# Altium integrated library Linear Technology Power Management LED Driver ICs.IntLib: 490 symbols (part 44 of 48)
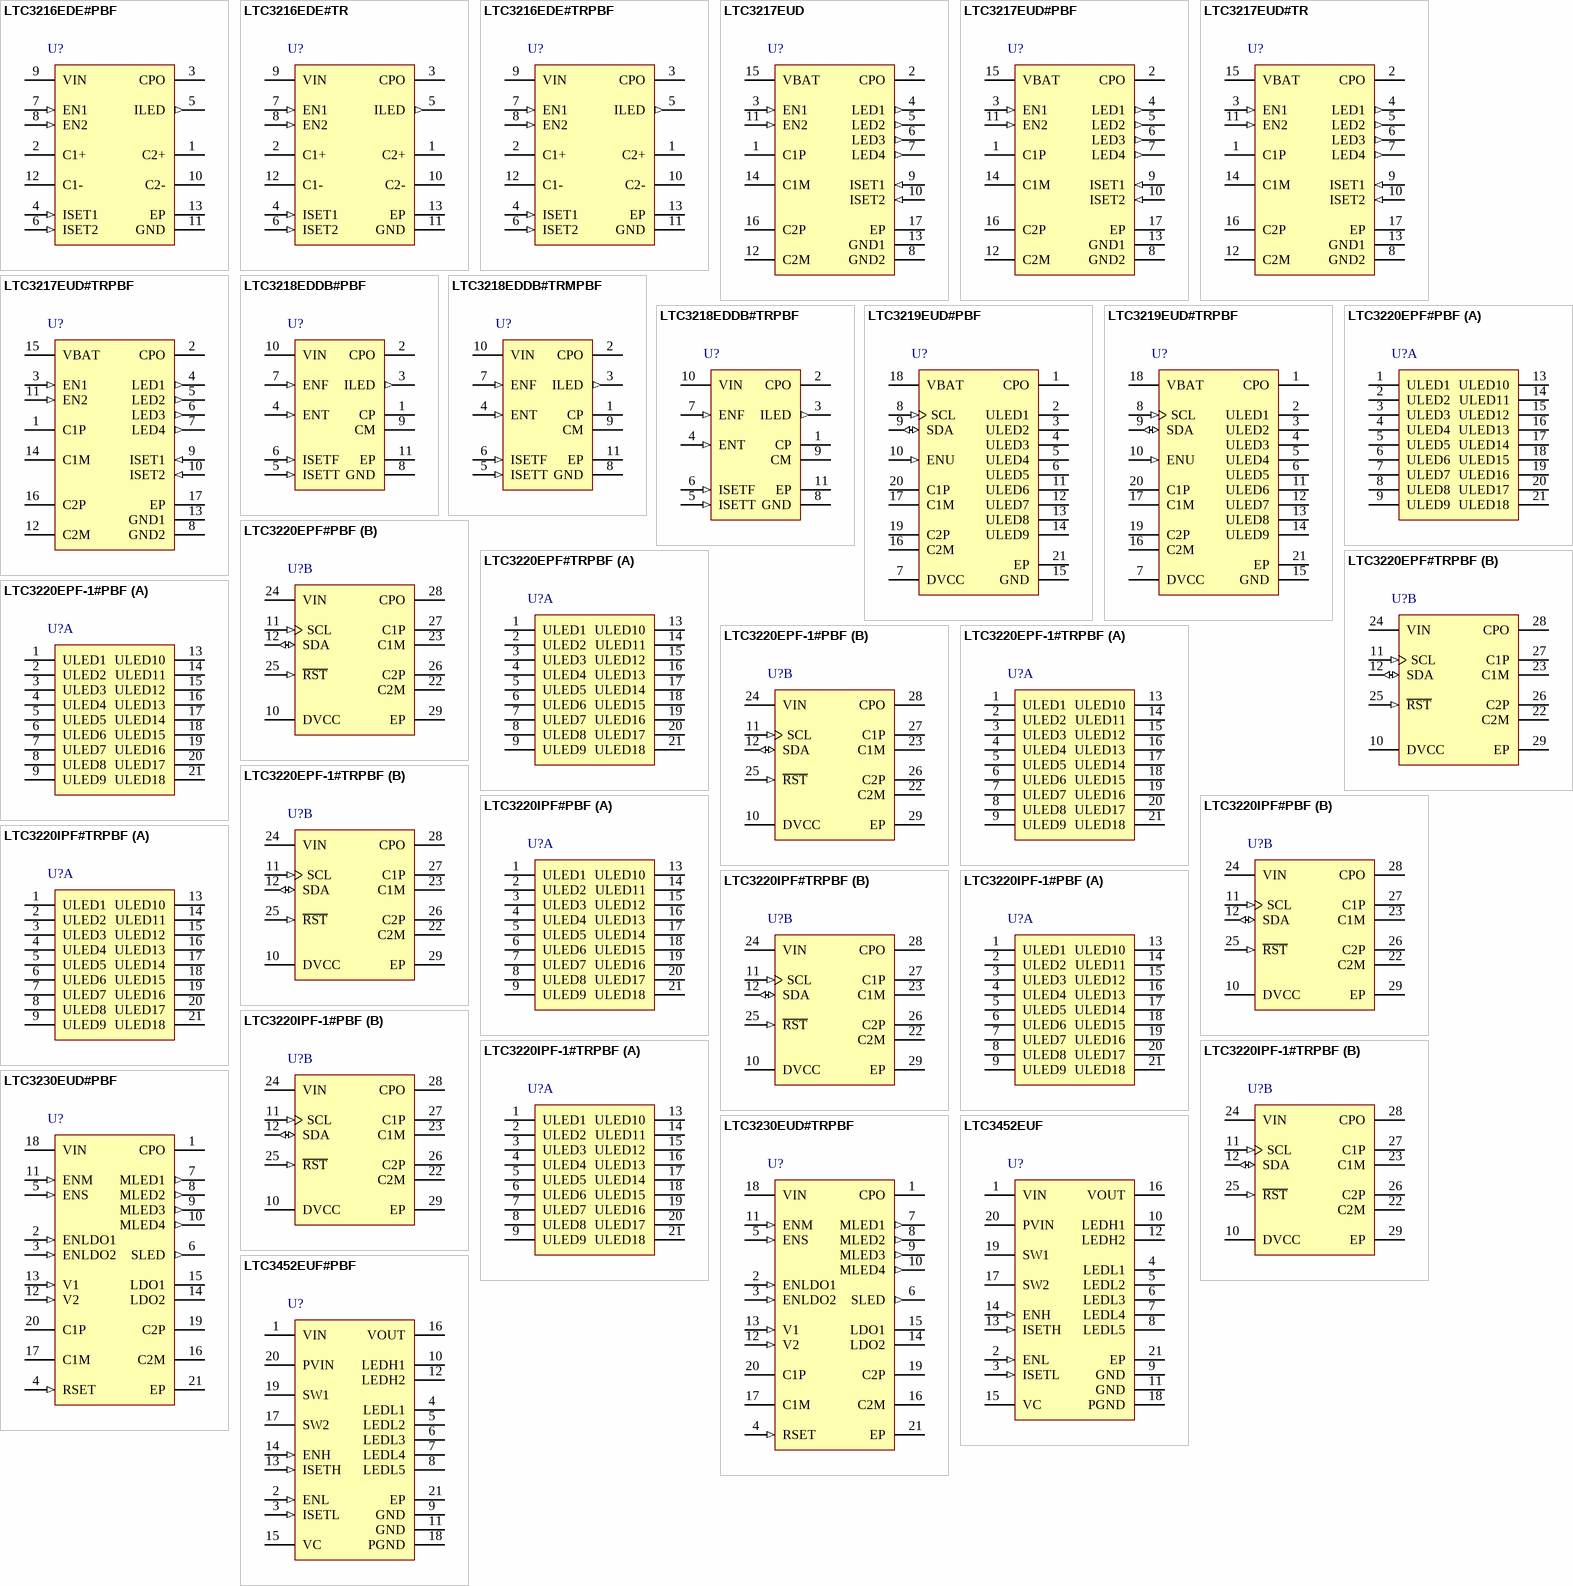
[diagram p63: symbols LTC3216EDE#PBF to LTC3452EUF#PBF]

## LTC3218EDDB#PBF
designator U?
400 mA Single Wire Camera LED Charge Pump, 2.9 to 4.5 V Vin, 5.3 V Vout MAX, 10-pin SON (DDB-10), -40 to 85 degC, Pb-Free; Manufacturer: Linear Technology; PartNumber: LTC3218EDDB#PBF; Topology: Charge Pump, LED Driver; Vin Min(V): 2.9; DatasheetVersion: Rev. B; PackageVersion: Rev. Ø, 06/2010; PackageReference: DDB10; PackageDescription: 10-Pin Plastic DFN, Body 3 x 2 mm, Pitch 0.5 mm; Supplier 1: Newark; Supplier Part Number 1: 78T3163; RoHS: TRUE; Mounting Technology: Surface Mount; Code_JEDEC: MO-229; ComponentLink1Description: Manufacturer URL; ComponentLink1URL: http://www.linear.com/; ComponentLink2Description: Datasheet; ComponentLink2URL: http://cds.linear.com/docs/en/datasheet/3218fb.pdf; ComponentLink3Description: Package Specification; ComponentLink3URL: http://cds.linear.com/docs/en/packaging/DFN_10_05-08-1722.pdf
footprint LT-DDB-10_V (SON, 10-Leads, Body 3x2mm, Pitch 0.5mm, Thermal Pad 2.39x0.64mm)
pins: 1 CP "Charge Pump Flying Capacitor. A 2.2uF X5R or X7R ceramic capacitor should be connected from CP to CM.", 2 CPO (power) "Output of the Charge Pump. This pin may be enabled or disabled using the ENT and ENF inputs. A 4.7uF X5R or X7R ceramic capacitor is required from CPO to GND.", 3 ILED (out) "LED Current Output. The LED is connected between ILED (anode) and GND (cathode). The current out of the ILED pin is set by resistors connected to the ISETT and ISETF pins. An internal, 220mohm sense resistor is connected (See Datasheet)", 4 ENT (in) "Input. The ENT pin is used to enable the part into torch mode and bring it into shutdown mode. An internal 250kohm resistor pulls this pin to GND when left floating.", 5 ISETT (in) "LED Torch Current Programming Resistor. A resistor connected between this pin and GND is used to set the LED torch current level.", 6 ISETF (in) "LED Flash Current Programming Resistor. A resistor connected between this pin and GND is used to set the LED flash current level.", 7 ENF (in) "Input. The ENF pin is used to enable the part into flash mode and bring it into shutdown mode. An internal 250kohm resistor pulls this pin to GND when left floating. A safety timer will disable the part if this pin is held (See Datasheet)", 8 GND (power) "Ground. This pin should be connected directly to a low impedance ground plane.", 9 CM "Charge Pump Flying Capacitor. A 2.2uF X5R or X7R ceramic capacitor should be connected from CP to CM.", 10 VIN (power) "Power. Supply voltage for the LTC3218. VIN should be bypassed with a low impedance ceramic capacitor to GND of at least 1.6uF of capacitance.", 11 EP (power) "Ground. This pad must be soldered to a low impedance ground plane for optimum thermal performance."

## LTC3218EDDB#TRMPBF
designator U?
400 mA Single Wire Camera LED Charge Pump, 2.9 to 4.5 V Vin, 5.3 V Vout MAX, 10-pin SON (DDB-10), -40 to 85 degC, Pb-Free, Mini Tape and Reel; Manufacturer: Linear Technology; PartNumber: LTC3218EDDB#TRMPBF; Topology: Charge Pump, LED Driver; Vin Min(V): 2.9; DatasheetVersion: Rev. B; PackageVersion: Rev. Ø, 06/2010; PackageReference: DDB10; PackageDescription: 10-Pin Plastic DFN, Body 3 x 2 mm, Pitch 0.5 mm; Supplier 1: Digi-Key; Supplier Part Number 1: LTC3218EDDB#TRMPBF-ND; Packing: Mini Tape and Reel; RoHS: TRUE; Mounting Technology: Surface Mount; Code_JEDEC: MO-229; ComponentLink1Description: Manufacturer URL; ComponentLink1URL: http://www.linear.com/; ComponentLink2Description: Datasheet; ComponentLink2URL: http://cds.linear.com/docs/en/datasheet/3218fb.pdf; ComponentLink3Description: Package Specification; ComponentLink3URL: http://cds.linear.com/docs/en/packaging/DFN_10_05-08-1722.pdf
footprint LT-DDB-10_V (SON, 10-Leads, Body 3x2mm, Pitch 0.5mm, Thermal Pad 2.39x0.64mm)
pins: 1 CP "Charge Pump Flying Capacitor. A 2.2uF X5R or X7R ceramic capacitor should be connected from CP to CM.", 2 CPO (power) "Output of the Charge Pump. This pin may be enabled or disabled using the ENT and ENF inputs. A 4.7uF X5R or X7R ceramic capacitor is required from CPO to GND.", 3 ILED (out) "LED Current Output. The LED is connected between ILED (anode) and GND (cathode). The current out of the ILED pin is set by resistors connected to the ISETT and ISETF pins. An internal, 220mohm sense resistor is connected (See Datasheet)", 4 ENT (in) "Input. The ENT pin is used to enable the part into torch mode and bring it into shutdown mode. An internal 250kohm resistor pulls this pin to GND when left floating.", 5 ISETT (in) "LED Torch Current Programming Resistor. A resistor connected between this pin and GND is used to set the LED torch current level.", 6 ISETF (in) "LED Flash Current Programming Resistor. A resistor connected between this pin and GND is used to set the LED flash current level.", 7 ENF (in) "Input. The ENF pin is used to enable the part into flash mode and bring it into shutdown mode. An internal 250kohm resistor pulls this pin to GND when left floating. A safety timer will disable the part if this pin is held (See Datasheet)", 8 GND (power) "Ground. This pin should be connected directly to a low impedance ground plane.", 9 CM "Charge Pump Flying Capacitor. A 2.2uF X5R or X7R ceramic capacitor should be connected from CP to CM.", 10 VIN (power) "Power. Supply voltage for the LTC3218. VIN should be bypassed with a low impedance ceramic capacitor to GND of at least 1.6uF of capacitance.", 11 EP (power) "Ground. This pad must be soldered to a low impedance ground plane for optimum thermal performance."

## LTC3218EDDB#TRPBF
designator U?
400 mA Single Wire Camera LED Charge Pump, 2.9 to 4.5 V Vin, 5.3 V Vout MAX, 10-pin SON (DDB-10), -40 to 85 degC, Pb-Free, Tape and Reel; Manufacturer: Linear Technology; PartNumber: LTC3218EDDB#TRPBF; Topology: Charge Pump, LED Driver; Vin Min(V): 2.9; DatasheetVersion: Rev. B; PackageVersion: Rev. Ø, 06/2010; PackageReference: DDB10; PackageDescription: 10-Pin Plastic DFN, Body 3 x 2 mm, Pitch 0.5 mm; Supplier 1: Digi-Key; Supplier Part Number 1: LTC3218EDDB#TRPBF-ND; Packing: Tape and Reel; RoHS: TRUE; Mounting Technology: Surface Mount; Code_JEDEC: MO-229; ComponentLink1Description: Manufacturer URL; ComponentLink1URL: http://www.linear.com/; ComponentLink2Description: Datasheet; ComponentLink2URL: http://cds.linear.com/docs/en/datasheet/3218fb.pdf; ComponentLink3Description: Package Specification; ComponentLink3URL: http://cds.linear.com/docs/en/packaging/DFN_10_05-08-1722.pdf
footprint LT-DDB-10_V (SON, 10-Leads, Body 3x2mm, Pitch 0.5mm, Thermal Pad 2.39x0.64mm)
pins: 1 CP "Charge Pump Flying Capacitor. A 2.2uF X5R or X7R ceramic capacitor should be connected from CP to CM.", 2 CPO (power) "Output of the Charge Pump. This pin may be enabled or disabled using the ENT and ENF inputs. A 4.7uF X5R or X7R ceramic capacitor is required from CPO to GND.", 3 ILED (out) "LED Current Output. The LED is connected between ILED (anode) and GND (cathode). The current out of the ILED pin is set by resistors connected to the ISETT and ISETF pins. An internal, 220mohm sense resistor is connected (See Datasheet)", 4 ENT (in) "Input. The ENT pin is used to enable the part into torch mode and bring it into shutdown mode. An internal 250kohm resistor pulls this pin to GND when left floating.", 5 ISETT (in) "LED Torch Current Programming Resistor. A resistor connected between this pin and GND is used to set the LED torch current level.", 6 ISETF (in) "LED Flash Current Programming Resistor. A resistor connected between this pin and GND is used to set the LED flash current level.", 7 ENF (in) "Input. The ENF pin is used to enable the part into flash mode and bring it into shutdown mode. An internal 250kohm resistor pulls this pin to GND when left floating. A safety timer will disable the part if this pin is held (See Datasheet)", 8 GND (power) "Ground. This pin should be connected directly to a low impedance ground plane.", 9 CM "Charge Pump Flying Capacitor. A 2.2uF X5R or X7R ceramic capacitor should be connected from CP to CM.", 10 VIN (power) "Power. Supply voltage for the LTC3218. VIN should be bypassed with a low impedance ceramic capacitor to GND of at least 1.6uF of capacitance.", 11 EP (power) "Ground. This pad must be soldered to a low impedance ground plane for optimum thermal performance."

## LTC3219EUD#PBF
designator U?
250 mA Universal Nine Channel LED Driver, 2.9 to 5.5 V Vin, 5.5 V Vout MAX, 20-pin QFN (UD-20), -40 to 85 degC, Pb-Free; Manufacturer: Linear Technology; PartNumber: LTC3219EUD#PBF; Topology: Charge Pump, LED Driver; Vin Min(V): 2.9; DatasheetVersion: Rev. A; PackageVersion: Rev. A, 06/2010; PackageReference: UD-20; PackageDescription: 20-Pin Plastic QFN, Body 3 x 3 mm, Pitch 0.4 mm; Supplier 1: Digi-Key; Supplier Part Number 1: LTC3219EUD#PBF-ND; Supplier 2: Farnell; Supplier Part Number 2: 1715229; Supplier 3: Newark; Supplier Part Number 3: 56M7434; RoHS: TRUE; Mounting Technology: Surface Mount; ComponentLink1Description: Manufacturer URL; ComponentLink1URL: http://www.linear.com/; ComponentLink2Description: Datasheet; ComponentLink2URL: http://cds.linear.com/docs/en/datasheet/3219fa.pdf; ComponentLink3Description: Package Specification; ComponentLink3URL: http://cds.linear.com/docs/en/packaging/QFN_20_05-08-1720.pdf
footprint LT-UD-20_N (QFN, 20-Leads, Body 3.1x3.1mm, Pitch 0.4mm, Thermal Pad 1.65x1.65mm, IPC Medium Density)
footprint LT-UD-20_L (QFN, 20-Leads, Body 3.1x3.1mm, Pitch 0.4mm, Thermal Pad 1.65x1.65mm, IPC High Density)
footprint LT-UD-20_M (QFN, 20-Leads, Body 3.1x3.1mm, Pitch 0.4mm, Thermal Pad 1.65x1.65mm, IPC Low Density)
pins: 1 CPO (power) "Output of the Charge Pump Used to Power all LEDs. A 2.2uF X5R or X7R ceramic capacitor should be connected to ground.", 2 ULED1 (oc) "Current Source Output for Driving LED. The LED current can be set from 0mA to 28mA in 64 steps via software control and internal 6-bit linear DAC. Each output can be disabled by setting the associated data register REG1 REG9 (See Datasheet)", 3 ULED2 (oc) "Current Source Output for Driving LED. The LED current can be set from 0mA to 28mA in 64 steps via software control and internal 6-bit linear DAC. Each output can be disabled by setting the associated data register REG1 REG9 (See Datasheet)", 4 ULED3 (oc) "Current Source Output for Driving LED. The LED current can be set from 0mA to 28mA in 64 steps via software control and internal 6-bit linear DAC. Each output can be disabled by setting the associated data register REG1 REG9 (See Datasheet)", 5 ULED4 (oc) "Current Source Output for Driving LED. The LED current can be set from 0mA to 28mA in 64 steps via software control and internal 6-bit linear DAC. Each output can be disabled by setting the associated data register REG1 REG9 (See Datasheet)", 6 ULED5 (oc) "Current Source Output for Driving LED. The LED current can be set from 0mA to 28mA in 64 steps via software control and internal 6-bit linear DAC. Each output can be disabled by setting the associated data register REG1 REG9 (See Datasheet)", 7 DVCC (power) "Supply Voltage for All Digital I/O Lines. This pin sets the logic reference level of the LTC3219. DVCC will reset the data registers when set below the undervoltage lockout threshold, which is the recommended method for (See Datasheet)", 8 SCL (in) "I2C Clock Input. The logic level for SCL is referenced to DVCC.", 9 SDA (io) "Input Data for the Serial Port. Serial data is shifted in one bit per clock to control the LTC3219. The logic level is referenced to DVCC.", 10 ENU (in) "Input. Used to enable or disable the preselected ULED outputs. When the pin is toggled from low (disable) to high (enable), the LTC3219 illuminates the pre-selected LEDs. When ENU is controlling selected outputs and other (See Datasheet)", 11 ULED6 (oc) "Current Source Output for Driving LED. The LED current can be set from 0mA to 28mA in 64 steps via software control and internal 6-bit linear DAC. Each output can be disabled by setting the associated data register REG1 REG9 (See Datasheet)", 12 ULED7 (oc) "Current Source Output for Driving LED. The LED current can be set from 0mA to 28mA in 64 steps via software control and internal 6-bit linear DAC. Each output can be disabled by setting the associated data register REG1 REG9 (See Datasheet)", 13 ULED8 (oc) "Current Source Output for Driving LED. The LED current can be set from 0mA to 28mA in 64 steps via software control and internal 6-bit linear DAC. Each output can be disabled by setting the associated data register REG1 REG9 (See Datasheet)", 14 ULED9 (oc) "Current Source Output for Driving LED. The LED current can be set from 0mA to 28mA in 64 steps via software control and internal 6-bit linear DAC. Each output can be disabled by setting the associated data register REG1 REG9 (See Datasheet)", 15 GND (power) "System Ground. Connect Pin 15 and the Exposed Pad (Pin 21) to the ground plane.", 16 C2M "Charge Pump Flying Capacitor Pin. A 1uF X7R or X5R ceramic capacitor should be connected from C1P to C1M and C2P to C2M.", 17 C1M "Charge Pump Flying Capacitor Pin. A 1uF X7R or X5R ceramic capacitor should be connected from C1P to C1M and C2P to C2M.", 18 VBAT (power) "Supply Voltage for the Entire Device. This pin should be bypassed with a single 2.2uF low ESR ceramic capacitor.", 19 C2P "Charge Pump Flying Capacitor Pin. A 1uF X7R or X5R ceramic capacitor should be connected from C1P to C1M and C2P to C2M.", 20 C1P "Charge Pump Flying Capacitor Pin. A 1uF X7R or X5R ceramic capacitor should be connected from C1P to C1M and C2P to C2M.", 21 EP (power) "System Ground. Connect Pin 15 and the Exposed Pad (Pin 21) to the ground plane."

## LTC3219EUD#TRPBF
designator U?
250 mA Universal Nine Channel LED Driver, 2.9 to 5.5 V Vin, 5.5 V Vout MAX, 20-pin QFN (UD-20), -40 to 85 degC, Pb-Free, Tape and Reel; Manufacturer: Linear Technology; PartNumber: LTC3219EUD#TRPBF; Topology: Charge Pump, LED Driver; Vin Min(V): 2.9; DatasheetVersion: Rev. A; PackageVersion: Rev. A, 06/2010; PackageReference: UD-20; PackageDescription: 20-Pin Plastic QFN, Body 3 x 3 mm, Pitch 0.4 mm; Supplier 1: Digi-Key; Supplier Part Number 1: LTC3219EUD#TRPBF-ND; Packing: Tape and Reel; RoHS: TRUE; Mounting Technology: Surface Mount; ComponentLink1Description: Manufacturer URL; ComponentLink1URL: http://www.linear.com/; ComponentLink2Description: Datasheet; ComponentLink2URL: http://cds.linear.com/docs/en/datasheet/3219fa.pdf; ComponentLink3Description: Package Specification; ComponentLink3URL: http://cds.linear.com/docs/en/packaging/QFN_20_05-08-1720.pdf
footprint LT-UD-20_N (QFN, 20-Leads, Body 3.1x3.1mm, Pitch 0.4mm, Thermal Pad 1.65x1.65mm, IPC Medium Density)
footprint LT-UD-20_L (QFN, 20-Leads, Body 3.1x3.1mm, Pitch 0.4mm, Thermal Pad 1.65x1.65mm, IPC High Density)
footprint LT-UD-20_M (QFN, 20-Leads, Body 3.1x3.1mm, Pitch 0.4mm, Thermal Pad 1.65x1.65mm, IPC Low Density)
pins: 1 CPO (power) "Output of the Charge Pump Used to Power all LEDs. A 2.2uF X5R or X7R ceramic capacitor should be connected to ground.", 2 ULED1 (oc) "Current Source Output for Driving LED. The LED current can be set from 0mA to 28mA in 64 steps via software control and internal 6-bit linear DAC. Each output can be disabled by setting the associated data register REG1 REG9 (See Datasheet)", 3 ULED2 (oc) "Current Source Output for Driving LED. The LED current can be set from 0mA to 28mA in 64 steps via software control and internal 6-bit linear DAC. Each output can be disabled by setting the associated data register REG1 REG9 (See Datasheet)", 4 ULED3 (oc) "Current Source Output for Driving LED. The LED current can be set from 0mA to 28mA in 64 steps via software control and internal 6-bit linear DAC. Each output can be disabled by setting the associated data register REG1 REG9 (See Datasheet)", 5 ULED4 (oc) "Current Source Output for Driving LED. The LED current can be set from 0mA to 28mA in 64 steps via software control and internal 6-bit linear DAC. Each output can be disabled by setting the associated data register REG1 REG9 (See Datasheet)", 6 ULED5 (oc) "Current Source Output for Driving LED. The LED current can be set from 0mA to 28mA in 64 steps via software control and internal 6-bit linear DAC. Each output can be disabled by setting the associated data register REG1 REG9 (See Datasheet)", 7 DVCC (power) "Supply Voltage for All Digital I/O Lines. This pin sets the logic reference level of the LTC3219. DVCC will reset the data registers when set below the undervoltage lockout threshold, which is the recommended method for (See Datasheet)", 8 SCL (in) "I2C Clock Input. The logic level for SCL is referenced to DVCC.", 9 SDA (io) "Input Data for the Serial Port. Serial data is shifted in one bit per clock to control the LTC3219. The logic level is referenced to DVCC.", 10 ENU (in) "Input. Used to enable or disable the preselected ULED outputs. When the pin is toggled from low (disable) to high (enable), the LTC3219 illuminates the pre-selected LEDs. When ENU is controlling selected outputs and other (See Datasheet)", 11 ULED6 (oc) "Current Source Output for Driving LED. The LED current can be set from 0mA to 28mA in 64 steps via software control and internal 6-bit linear DAC. Each output can be disabled by setting the associated data register REG1 REG9 (See Datasheet)", 12 ULED7 (oc) "Current Source Output for Driving LED. The LED current can be set from 0mA to 28mA in 64 steps via software control and internal 6-bit linear DAC. Each output can be disabled by setting the associated data register REG1 REG9 (See Datasheet)", 13 ULED8 (oc) "Current Source Output for Driving LED. The LED current can be set from 0mA to 28mA in 64 steps via software control and internal 6-bit linear DAC. Each output can be disabled by setting the associated data register REG1 REG9 (See Datasheet)", 14 ULED9 (oc) "Current Source Output for Driving LED. The LED current can be set from 0mA to 28mA in 64 steps via software control and internal 6-bit linear DAC. Each output can be disabled by setting the associated data register REG1 REG9 (See Datasheet)", 15 GND (power) "System Ground. Connect Pin 15 and the Exposed Pad (Pin 21) to the ground plane.", 16 C2M "Charge Pump Flying Capacitor Pin. A 1uF X7R or X5R ceramic capacitor should be connected from C1P to C1M and C2P to C2M.", 17 C1M "Charge Pump Flying Capacitor Pin. A 1uF X7R or X5R ceramic capacitor should be connected from C1P to C1M and C2P to C2M.", 18 VBAT (power) "Supply Voltage for the Entire Device. This pin should be bypassed with a single 2.2uF low ESR ceramic capacitor.", 19 C2P "Charge Pump Flying Capacitor Pin. A 1uF X7R or X5R ceramic capacitor should be connected from C1P to C1M and C2P to C2M.", 20 C1P "Charge Pump Flying Capacitor Pin. A 1uF X7R or X5R ceramic capacitor should be connected from C1P to C1M and C2P to C2M.", 21 EP (power) "System Ground. Connect Pin 15 and the Exposed Pad (Pin 21) to the ground plane."

## LTC3220EPF#PBF
designator U?
360 mA Universal 18-Channel LED Driver, 2.9 to 5.5 V Vin, 5.5 V Vout MAX, 28-pin QFN (PF-28), -40 to 85 degC, Pb-Free; Manufacturer: Linear Technology; PartNumber: LTC3220EPF#PBF; Topology: Charge Pump, LED Driver; Vin Min(V): 2.9; DatasheetVersion: Rev. C; PackageVersion: Rev. Ø, 01/2011; PackageReference: PF-28; PackageDescription: 28-Pin Plastic UTQFN, Body 4 x 4 mm, Pitch 0.4 mm; Supplier 1: Digi-Key; Supplier Part Number 1: LTC3220EPF#PBF-ND; Supplier 2: Farnell; Supplier Part Number 2: 1628760; Supplier 3: Newark; Supplier Part Number 3: 75M4517; RoHS: TRUE; Mounting Technology: Surface Mount; ComponentLink1Description: Manufacturer URL; ComponentLink1URL: http://www.linear.com/; ComponentLink2Description: Datasheet; ComponentLink2URL: http://cds.linear.com/docs/en/datasheet/32201fc.pdf; ComponentLink3Description: Package Specification; ComponentLink3URL: http://cds.linear.com/docs/en/packaging/(PF28)%20UTQFN%2005-08-1759%20Rev%20%C3%98.pdf
footprint LT-PF-28_N (QFN, 28-Leads, Body 4.1x4.1mm, Pitch 0.4mm, Thermal Pad 2.64x2.64mm, IPC Medium Density)
footprint LT-PF-28_L (QFN, 28-Leads, Body 4.1x4.1mm, Pitch 0.4mm, Thermal Pad 2.64x2.64mm, IPC High Density)
footprint LT-PF-28_M (QFN, 28-Leads, Body 4.1x4.1mm, Pitch 0.4mm, Thermal Pad 2.64x2.64mm, IPC Low Density)
part A pins: 1 ULED1 (oc) "Current Source Output for Driving LED. The LED current can be set from 0mA to 20mA in 64 steps via software control and internal 6-bit linear DAC. Each output can be disabled by setting the associated data register REG1 to (See Datasheet)", 2 ULED2 (oc) "Current Source Output for Driving LED. The LED current can be set from 0mA to 20mA in 64 steps via software control and internal 6-bit linear DAC. Each output can be disabled by setting the associated data register REG1 to (See Datasheet)", 3 ULED3 (oc) "Current Source Output for Driving LED. The LED current can be set from 0mA to 20mA in 64 steps via software control and internal 6-bit linear DAC. Each output can be disabled by setting the associated data register REG1 to (See Datasheet)", 4 ULED4 (oc) "Current Source Output for Driving LED. The LED current can be set from 0mA to 20mA in 64 steps via software control and internal 6-bit linear DAC. Each output can be disabled by setting the associated data register REG1 to (See Datasheet)", 5 ULED5 (oc) "Current Source Output for Driving LED. The LED current can be set from 0mA to 20mA in 64 steps via software control and internal 6-bit linear DAC. Each output can be disabled by setting the associated data register REG1 to (See Datasheet)", 6 ULED6 (oc) "Current Source Output for Driving LED. The LED current can be set from 0mA to 20mA in 64 steps via software control and internal 6-bit linear DAC. Each output can be disabled by setting the associated data register REG1 to (See Datasheet)", 7 ULED7 (oc) "Current Source Output for Driving LED. The LED current can be set from 0mA to 20mA in 64 steps via software control and internal 6-bit linear DAC. Each output can be disabled by setting the associated data register REG1 to (See Datasheet)", 8 ULED8 (oc) "Current Source Output for Driving LED. The LED current can be set from 0mA to 20mA in 64 steps via software control and internal 6-bit linear DAC. Each output can be disabled by setting the associated data register REG1 to (See Datasheet)", 9 ULED9 (oc) "Current Source Output for Driving LED. The LED current can be set from 0mA to 20mA in 64 steps via software control and internal 6-bit linear DAC. Each output can be disabled by setting the associated data register REG1 to (See Datasheet)", 13 ULED10 (oc) "Current Source Output for Driving LED. The LED current can be set from 0mA to 20mA in 64 steps via software control and internal 6-bit linear DAC. Each output can be disabled by setting the associated data register REG1 to (See Datasheet)", 14 ULED11 (oc) "Current Source Output for Driving LED. The LED current can be set from 0mA to 20mA in 64 steps via software control and internal 6-bit linear DAC. Each output can be disabled by setting the associated data register REG1 to (See Datasheet)", 15 ULED12 (oc) "Current Source Output for Driving LED. The LED current can be set from 0mA to 20mA in 64 steps via software control and internal 6-bit linear DAC. Each output can be disabled by setting the associated data register REG1 to (See Datasheet)", 16 ULED13 (oc) "Current Source Output for Driving LED. The LED current can be set from 0mA to 20mA in 64 steps via software control and internal 6-bit linear DAC. Each output can be disabled by setting the associated data register REG1 to (See Datasheet)", 17 ULED14 (oc) "Current Source Output for Driving LED. The LED current can be set from 0mA to 20mA in 64 steps via software control and internal 6-bit linear DAC. Each output can be disabled by setting the associated data register REG1 to (See Datasheet)", 18 ULED15 (oc) "Current Source Output for Driving LED. The LED current can be set from 0mA to 20mA in 64 steps via software control and internal 6-bit linear DAC. Each output can be disabled by setting the associated data register REG1 to (See Datasheet)", 19 ULED16 (oc) "Current Source Output for Driving LED. The LED current can be set from 0mA to 20mA in 64 steps via software control and internal 6-bit linear DAC. Each output can be disabled by setting the associated data register REG1 to (See Datasheet)", 20 ULED17 (oc) "Current Source Output for Driving LED. The LED current can be set from 0mA to 20mA in 64 steps via software control and internal 6-bit linear DAC. Each output can be disabled by setting the associated data register REG1 to (See Datasheet)", 21 ULED18 (oc) "Current Source Output for Driving LED. The LED current can be set from 0mA to 20mA in 64 steps via software control and internal 6-bit linear DAC. Each output can be disabled by setting the associated data register REG1 to (See Datasheet)"
part B pins: 10 DVCC (power) "Supply Voltage for All digital I/O lines. This pin sets the logic reference level of the LTC3220/LTC3220-1. DVCC will reset the data registers when set below the undervoltage lockout threshold. A 0.1uF X5R or X7R ceramic (See Datasheet)", 11 SCL (in) "I2C Clock Input. The logic level for SCL is referenced to DVCC.", 12 SDA (io) "Input Data for the Serial Port. Serial data is shifted in one bit per clock cycle to control the LTC3220/ LTC3220-1. The logic level is referenced to DVCC.", 22 C2M "Charge Pump Flying Capacitor Pins. A 2.2uF X7R or X5R ceramic capacitor should be connected from C1P to C1M and C2P to C2M.", 23 C1M "Charge Pump Flying Capacitor Pins. A 2.2uF X7R or X5R ceramic capacitor should be connected from C1P to C1M and C2P to C2M.", 24 VIN (power) "Supply Voltage for the Entire Device. This pin must be bypassed with a single 2.2uF low ESR ceramic capacitor.", 25 ~{RST} (in) "Active Low Reset Input. R\S\T\ Resets all internal registers and forces LTC3220/LTC3220-1 into shutdown mode.", 26 C2P "Charge Pump Flying Capacitor Pins. A 2.2uF X7R or X5R ceramic capacitor should be connected from C1P to C1M and C2P to C2M.", 27 C1P "Charge Pump Flying Capacitor Pins. A 2.2uF X7R or X5R ceramic capacitor should be connected from C1P to C1M and C2P to C2M.", 28 CPO (power) "Output of the Charge Pump. Used to power all LEDs. A 4.7uF X5R or X7R ceramic capacitor should be connected to ground.", 29 EP (power) "Ground. The Exposed Pad must be soldered to PCB ground."

## LTC3220EPF#TRPBF
designator U?
360 mA Universal 18-Channel LED Driver, 2.9 to 5.5 V Vin, 5.5 V Vout MAX, 28-pin QFN (PF-28), -40 to 85 degC, Pb-Free, Tape and Reel; Manufacturer: Linear Technology; PartNumber: LTC3220EPF#TRPBF; Topology: Charge Pump, LED Driver; Vin Min(V): 2.9; DatasheetVersion: Rev. C; PackageVersion: Rev. Ø, 01/2011; PackageReference: PF-28; PackageDescription: 28-Pin Plastic UTQFN, Body 4 x 4 mm, Pitch 0.4 mm; Supplier 1: Digi-Key; Supplier Part Number 1: LTC3220EPF#TRPBF-ND; Packing: Tape and Reel; RoHS: TRUE; Mounting Technology: Surface Mount; ComponentLink1Description: Manufacturer URL; ComponentLink1URL: http://www.linear.com/; ComponentLink2Description: Datasheet; ComponentLink2URL: http://cds.linear.com/docs/en/datasheet/32201fc.pdf; ComponentLink3Description: Package Specification; ComponentLink3URL: http://cds.linear.com/docs/en/packaging/(PF28)%20UTQFN%2005-08-1759%20Rev%20%C3%98.pdf
footprint LT-PF-28_N (QFN, 28-Leads, Body 4.1x4.1mm, Pitch 0.4mm, Thermal Pad 2.64x2.64mm, IPC Medium Density)
footprint LT-PF-28_L (QFN, 28-Leads, Body 4.1x4.1mm, Pitch 0.4mm, Thermal Pad 2.64x2.64mm, IPC High Density)
footprint LT-PF-28_M (QFN, 28-Leads, Body 4.1x4.1mm, Pitch 0.4mm, Thermal Pad 2.64x2.64mm, IPC Low Density)
part A pins: 1 ULED1 (oc) "Current Source Output for Driving LED. The LED current can be set from 0mA to 20mA in 64 steps via software control and internal 6-bit linear DAC. Each output can be disabled by setting the associated data register REG1 to (See Datasheet)", 2 ULED2 (oc) "Current Source Output for Driving LED. The LED current can be set from 0mA to 20mA in 64 steps via software control and internal 6-bit linear DAC. Each output can be disabled by setting the associated data register REG1 to (See Datasheet)", 3 ULED3 (oc) "Current Source Output for Driving LED. The LED current can be set from 0mA to 20mA in 64 steps via software control and internal 6-bit linear DAC. Each output can be disabled by setting the associated data register REG1 to (See Datasheet)", 4 ULED4 (oc) "Current Source Output for Driving LED. The LED current can be set from 0mA to 20mA in 64 steps via software control and internal 6-bit linear DAC. Each output can be disabled by setting the associated data register REG1 to (See Datasheet)", 5 ULED5 (oc) "Current Source Output for Driving LED. The LED current can be set from 0mA to 20mA in 64 steps via software control and internal 6-bit linear DAC. Each output can be disabled by setting the associated data register REG1 to (See Datasheet)", 6 ULED6 (oc) "Current Source Output for Driving LED. The LED current can be set from 0mA to 20mA in 64 steps via software control and internal 6-bit linear DAC. Each output can be disabled by setting the associated data register REG1 to (See Datasheet)", 7 ULED7 (oc) "Current Source Output for Driving LED. The LED current can be set from 0mA to 20mA in 64 steps via software control and internal 6-bit linear DAC. Each output can be disabled by setting the associated data register REG1 to (See Datasheet)", 8 ULED8 (oc) "Current Source Output for Driving LED. The LED current can be set from 0mA to 20mA in 64 steps via software control and internal 6-bit linear DAC. Each output can be disabled by setting the associated data register REG1 to (See Datasheet)", 9 ULED9 (oc) "Current Source Output for Driving LED. The LED current can be set from 0mA to 20mA in 64 steps via software control and internal 6-bit linear DAC. Each output can be disabled by setting the associated data register REG1 to (See Datasheet)", 13 ULED10 (oc) "Current Source Output for Driving LED. The LED current can be set from 0mA to 20mA in 64 steps via software control and internal 6-bit linear DAC. Each output can be disabled by setting the associated data register REG1 to (See Datasheet)", 14 ULED11 (oc) "Current Source Output for Driving LED. The LED current can be set from 0mA to 20mA in 64 steps via software control and internal 6-bit linear DAC. Each output can be disabled by setting the associated data register REG1 to (See Datasheet)", 15 ULED12 (oc) "Current Source Output for Driving LED. The LED current can be set from 0mA to 20mA in 64 steps via software control and internal 6-bit linear DAC. Each output can be disabled by setting the associated data register REG1 to (See Datasheet)", 16 ULED13 (oc) "Current Source Output for Driving LED. The LED current can be set from 0mA to 20mA in 64 steps via software control and internal 6-bit linear DAC. Each output can be disabled by setting the associated data register REG1 to (See Datasheet)", 17 ULED14 (oc) "Current Source Output for Driving LED. The LED current can be set from 0mA to 20mA in 64 steps via software control and internal 6-bit linear DAC. Each output can be disabled by setting the associated data register REG1 to (See Datasheet)", 18 ULED15 (oc) "Current Source Output for Driving LED. The LED current can be set from 0mA to 20mA in 64 steps via software control and internal 6-bit linear DAC. Each output can be disabled by setting the associated data register REG1 to (See Datasheet)", 19 ULED16 (oc) "Current Source Output for Driving LED. The LED current can be set from 0mA to 20mA in 64 steps via software control and internal 6-bit linear DAC. Each output can be disabled by setting the associated data register REG1 to (See Datasheet)", 20 ULED17 (oc) "Current Source Output for Driving LED. The LED current can be set from 0mA to 20mA in 64 steps via software control and internal 6-bit linear DAC. Each output can be disabled by setting the associated data register REG1 to (See Datasheet)", 21 ULED18 (oc) "Current Source Output for Driving LED. The LED current can be set from 0mA to 20mA in 64 steps via software control and internal 6-bit linear DAC. Each output can be disabled by setting the associated data register REG1 to (See Datasheet)"
part B pins: 10 DVCC (power) "Supply Voltage for All digital I/O lines. This pin sets the logic reference level of the LTC3220/LTC3220-1. DVCC will reset the data registers when set below the undervoltage lockout threshold. A 0.1uF X5R or X7R ceramic (See Datasheet)", 11 SCL (in) "I2C Clock Input. The logic level for SCL is referenced to DVCC.", 12 SDA (io) "Input Data for the Serial Port. Serial data is shifted in one bit per clock cycle to control the LTC3220/ LTC3220-1. The logic level is referenced to DVCC.", 22 C2M "Charge Pump Flying Capacitor Pins. A 2.2uF X7R or X5R ceramic capacitor should be connected from C1P to C1M and C2P to C2M.", 23 C1M "Charge Pump Flying Capacitor Pins. A 2.2uF X7R or X5R ceramic capacitor should be connected from C1P to C1M and C2P to C2M.", 24 VIN (power) "Supply Voltage for the Entire Device. This pin must be bypassed with a single 2.2uF low ESR ceramic capacitor.", 25 ~{RST} (in) "Active Low Reset Input. R\S\T\ Resets all internal registers and forces LTC3220/LTC3220-1 into shutdown mode.", 26 C2P "Charge Pump Flying Capacitor Pins. A 2.2uF X7R or X5R ceramic capacitor should be connected from C1P to C1M and C2P to C2M.", 27 C1P "Charge Pump Flying Capacitor Pins. A 2.2uF X7R or X5R ceramic capacitor should be connected from C1P to C1M and C2P to C2M.", 28 CPO (power) "Output of the Charge Pump. Used to power all LEDs. A 4.7uF X5R or X7R ceramic capacitor should be connected to ground.", 29 EP (power) "Ground. The Exposed Pad must be soldered to PCB ground."

## LTC3220EPF-1#PBF
designator U?
360 mA Universal 18-Channel LED Driver, 2.9 to 5.5 V Vin, 5.5 V Vout MAX, 28-pin QFN (PF-28), -40 to 85 degC, Pb-Free; Manufacturer: Linear Technology; PartNumber: LTC3220EPF-1#PBF; Topology: Charge Pump, LED Driver; Vin Min(V): 2.9; DatasheetVersion: Rev. C; PackageVersion: Rev. Ø, 01/2011; PackageReference: PF-28; PackageDescription: 28-Pin Plastic UTQFN, Body 4 x 4 mm, Pitch 0.4 mm; Supplier 1: Digi-Key; Supplier Part Number 1: LTC3220EPF-1#PBF-ND; Supplier 2: Newark; Supplier Part Number 2: 75M4515; RoHS: TRUE; Mounting Technology: Surface Mount; ComponentLink1Description: Manufacturer URL; ComponentLink1URL: http://www.linear.com/; ComponentLink2Description: Datasheet; ComponentLink2URL: http://cds.linear.com/docs/en/datasheet/32201fc.pdf; ComponentLink3Description: Package Specification; ComponentLink3URL: http://cds.linear.com/docs/en/packaging/(PF28)%20UTQFN%2005-08-1759%20Rev%20%C3%98.pdf
footprint LT-PF-28_N (QFN, 28-Leads, Body 4.1x4.1mm, Pitch 0.4mm, Thermal Pad 2.64x2.64mm, IPC Medium Density)
footprint LT-PF-28_L (QFN, 28-Leads, Body 4.1x4.1mm, Pitch 0.4mm, Thermal Pad 2.64x2.64mm, IPC High Density)
footprint LT-PF-28_M (QFN, 28-Leads, Body 4.1x4.1mm, Pitch 0.4mm, Thermal Pad 2.64x2.64mm, IPC Low Density)
part A pins: 1 ULED1 (oc) "Current Source Output for Driving LED. The LED current can be set from 0mA to 20mA in 64 steps via software control and internal 6-bit linear DAC. Each output can be disabled by setting the associated data register REG1 to (See Datasheet)", 2 ULED2 (oc) "Current Source Output for Driving LED. The LED current can be set from 0mA to 20mA in 64 steps via software control and internal 6-bit linear DAC. Each output can be disabled by setting the associated data register REG1 to (See Datasheet)", 3 ULED3 (oc) "Current Source Output for Driving LED. The LED current can be set from 0mA to 20mA in 64 steps via software control and internal 6-bit linear DAC. Each output can be disabled by setting the associated data register REG1 to (See Datasheet)", 4 ULED4 (oc) "Current Source Output for Driving LED. The LED current can be set from 0mA to 20mA in 64 steps via software control and internal 6-bit linear DAC. Each output can be disabled by setting the associated data register REG1 to (See Datasheet)", 5 ULED5 (oc) "Current Source Output for Driving LED. The LED current can be set from 0mA to 20mA in 64 steps via software control and internal 6-bit linear DAC. Each output can be disabled by setting the associated data register REG1 to (See Datasheet)", 6 ULED6 (oc) "Current Source Output for Driving LED. The LED current can be set from 0mA to 20mA in 64 steps via software control and internal 6-bit linear DAC. Each output can be disabled by setting the associated data register REG1 to (See Datasheet)", 7 ULED7 (oc) "Current Source Output for Driving LED. The LED current can be set from 0mA to 20mA in 64 steps via software control and internal 6-bit linear DAC. Each output can be disabled by setting the associated data register REG1 to (See Datasheet)", 8 ULED8 (oc) "Current Source Output for Driving LED. The LED current can be set from 0mA to 20mA in 64 steps via software control and internal 6-bit linear DAC. Each output can be disabled by setting the associated data register REG1 to (See Datasheet)", 9 ULED9 (oc) "Current Source Output for Driving LED. The LED current can be set from 0mA to 20mA in 64 steps via software control and internal 6-bit linear DAC. Each output can be disabled by setting the associated data register REG1 to (See Datasheet)", 13 ULED10 (oc) "Current Source Output for Driving LED. The LED current can be set from 0mA to 20mA in 64 steps via software control and internal 6-bit linear DAC. Each output can be disabled by setting the associated data register REG1 to (See Datasheet)", 14 ULED11 (oc) "Current Source Output for Driving LED. The LED current can be set from 0mA to 20mA in 64 steps via software control and internal 6-bit linear DAC. Each output can be disabled by setting the associated data register REG1 to (See Datasheet)", 15 ULED12 (oc) "Current Source Output for Driving LED. The LED current can be set from 0mA to 20mA in 64 steps via software control and internal 6-bit linear DAC. Each output can be disabled by setting the associated data register REG1 to (See Datasheet)", 16 ULED13 (oc) "Current Source Output for Driving LED. The LED current can be set from 0mA to 20mA in 64 steps via software control and internal 6-bit linear DAC. Each output can be disabled by setting the associated data register REG1 to (See Datasheet)", 17 ULED14 (oc) "Current Source Output for Driving LED. The LED current can be set from 0mA to 20mA in 64 steps via software control and internal 6-bit linear DAC. Each output can be disabled by setting the associated data register REG1 to (See Datasheet)", 18 ULED15 (oc) "Current Source Output for Driving LED. The LED current can be set from 0mA to 20mA in 64 steps via software control and internal 6-bit linear DAC. Each output can be disabled by setting the associated data register REG1 to (See Datasheet)", 19 ULED16 (oc) "Current Source Output for Driving LED. The LED current can be set from 0mA to 20mA in 64 steps via software control and internal 6-bit linear DAC. Each output can be disabled by setting the associated data register REG1 to (See Datasheet)", 20 ULED17 (oc) "Current Source Output for Driving LED. The LED current can be set from 0mA to 20mA in 64 steps via software control and internal 6-bit linear DAC. Each output can be disabled by setting the associated data register REG1 to (See Datasheet)", 21 ULED18 (oc) "Current Source Output for Driving LED. The LED current can be set from 0mA to 20mA in 64 steps via software control and internal 6-bit linear DAC. Each output can be disabled by setting the associated data register REG1 to (See Datasheet)"
part B pins: 10 DVCC (power) "Supply Voltage for All digital I/O lines. This pin sets the logic reference level of the LTC3220/LTC3220-1. DVCC will reset the data registers when set below the undervoltage lockout threshold. A 0.1uF X5R or X7R ceramic (See Datasheet)", 11 SCL (in) "I2C Clock Input. The logic level for SCL is referenced to DVCC.", 12 SDA (io) "Input Data for the Serial Port. Serial data is shifted in one bit per clock cycle to control the LTC3220/ LTC3220-1. The logic level is referenced to DVCC.", 22 C2M "Charge Pump Flying Capacitor Pins. A 2.2uF X7R or X5R ceramic capacitor should be connected from C1P to C1M and C2P to C2M.", 23 C1M "Charge Pump Flying Capacitor Pins. A 2.2uF X7R or X5R ceramic capacitor should be connected from C1P to C1M and C2P to C2M.", 24 VIN (power) "Supply Voltage for the Entire Device. This pin must be bypassed with a single 2.2uF low ESR ceramic capacitor.", 25 ~{RST} (in) "Active Low Reset Input. R\S\T\ Resets all internal registers and forces LTC3220/LTC3220-1 into shutdown mode.", 26 C2P "Charge Pump Flying Capacitor Pins. A 2.2uF X7R or X5R ceramic capacitor should be connected from C1P to C1M and C2P to C2M.", 27 C1P "Charge Pump Flying Capacitor Pins. A 2.2uF X7R or X5R ceramic capacitor should be connected from C1P to C1M and C2P to C2M.", 28 CPO (power) "Output of the Charge Pump. Used to power all LEDs. A 4.7uF X5R or X7R ceramic capacitor should be connected to ground.", 29 EP (power) "Ground. The Exposed Pad must be soldered to PCB ground."

## LTC3220EPF-1#TRPBF
designator U?
360 mA Universal 18-Channel LED Driver, 2.9 to 5.5 V Vin, 5.5 V Vout MAX, 28-pin QFN (PF-28), -40 to 85 degC, Pb-Free, Tape and Reel; Manufacturer: Linear Technology; PartNumber: LTC3220EPF-1#TRPBF; Topology: Charge Pump, LED Driver; Vin Min(V): 2.9; DatasheetVersion: Rev. C; PackageVersion: Rev. Ø, 01/2011; PackageReference: PF-28; PackageDescription: 28-Pin Plastic UTQFN, Body 4 x 4 mm, Pitch 0.4 mm; Supplier 1: Digi-Key; Supplier Part Number 1: LTC3220EPF-1#TRPBF-ND; Packing: Tape and Reel; RoHS: TRUE; Mounting Technology: Surface Mount; ComponentLink1Description: Manufacturer URL; ComponentLink1URL: http://www.linear.com/; ComponentLink2Description: Datasheet; ComponentLink2URL: http://cds.linear.com/docs/en/datasheet/32201fc.pdf; ComponentLink3Description: Package Specification; ComponentLink3URL: http://cds.linear.com/docs/en/packaging/(PF28)%20UTQFN%2005-08-1759%20Rev%20%C3%98.pdf
footprint LT-PF-28_N (QFN, 28-Leads, Body 4.1x4.1mm, Pitch 0.4mm, Thermal Pad 2.64x2.64mm, IPC Medium Density)
footprint LT-PF-28_L (QFN, 28-Leads, Body 4.1x4.1mm, Pitch 0.4mm, Thermal Pad 2.64x2.64mm, IPC High Density)
footprint LT-PF-28_M (QFN, 28-Leads, Body 4.1x4.1mm, Pitch 0.4mm, Thermal Pad 2.64x2.64mm, IPC Low Density)
part A pins: 1 ULED1 (oc) "Current Source Output for Driving LED. The LED current can be set from 0mA to 20mA in 64 steps via software control and internal 6-bit linear DAC. Each output can be disabled by setting the associated data register REG1 to (See Datasheet)", 2 ULED2 (oc) "Current Source Output for Driving LED. The LED current can be set from 0mA to 20mA in 64 steps via software control and internal 6-bit linear DAC. Each output can be disabled by setting the associated data register REG1 to (See Datasheet)", 3 ULED3 (oc) "Current Source Output for Driving LED. The LED current can be set from 0mA to 20mA in 64 steps via software control and internal 6-bit linear DAC. Each output can be disabled by setting the associated data register REG1 to (See Datasheet)", 4 ULED4 (oc) "Current Source Output for Driving LED. The LED current can be set from 0mA to 20mA in 64 steps via software control and internal 6-bit linear DAC. Each output can be disabled by setting the associated data register REG1 to (See Datasheet)", 5 ULED5 (oc) "Current Source Output for Driving LED. The LED current can be set from 0mA to 20mA in 64 steps via software control and internal 6-bit linear DAC. Each output can be disabled by setting the associated data register REG1 to (See Datasheet)", 6 ULED6 (oc) "Current Source Output for Driving LED. The LED current can be set from 0mA to 20mA in 64 steps via software control and internal 6-bit linear DAC. Each output can be disabled by setting the associated data register REG1 to (See Datasheet)", 7 ULED7 (oc) "Current Source Output for Driving LED. The LED current can be set from 0mA to 20mA in 64 steps via software control and internal 6-bit linear DAC. Each output can be disabled by setting the associated data register REG1 to (See Datasheet)", 8 ULED8 (oc) "Current Source Output for Driving LED. The LED current can be set from 0mA to 20mA in 64 steps via software control and internal 6-bit linear DAC. Each output can be disabled by setting the associated data register REG1 to (See Datasheet)", 9 ULED9 (oc) "Current Source Output for Driving LED. The LED current can be set from 0mA to 20mA in 64 steps via software control and internal 6-bit linear DAC. Each output can be disabled by setting the associated data register REG1 to (See Datasheet)", 13 ULED10 (oc) "Current Source Output for Driving LED. The LED current can be set from 0mA to 20mA in 64 steps via software control and internal 6-bit linear DAC. Each output can be disabled by setting the associated data register REG1 to (See Datasheet)", 14 ULED11 (oc) "Current Source Output for Driving LED. The LED current can be set from 0mA to 20mA in 64 steps via software control and internal 6-bit linear DAC. Each output can be disabled by setting the associated data register REG1 to (See Datasheet)", 15 ULED12 (oc) "Current Source Output for Driving LED. The LED current can be set from 0mA to 20mA in 64 steps via software control and internal 6-bit linear DAC. Each output can be disabled by setting the associated data register REG1 to (See Datasheet)", 16 ULED13 (oc) "Current Source Output for Driving LED. The LED current can be set from 0mA to 20mA in 64 steps via software control and internal 6-bit linear DAC. Each output can be disabled by setting the associated data register REG1 to (See Datasheet)", 17 ULED14 (oc) "Current Source Output for Driving LED. The LED current can be set from 0mA to 20mA in 64 steps via software control and internal 6-bit linear DAC. Each output can be disabled by setting the associated data register REG1 to (See Datasheet)", 18 ULED15 (oc) "Current Source Output for Driving LED. The LED current can be set from 0mA to 20mA in 64 steps via software control and internal 6-bit linear DAC. Each output can be disabled by setting the associated data register REG1 to (See Datasheet)", 19 ULED16 (oc) "Current Source Output for Driving LED. The LED current can be set from 0mA to 20mA in 64 steps via software control and internal 6-bit linear DAC. Each output can be disabled by setting the associated data register REG1 to (See Datasheet)", 20 ULED17 (oc) "Current Source Output for Driving LED. The LED current can be set from 0mA to 20mA in 64 steps via software control and internal 6-bit linear DAC. Each output can be disabled by setting the associated data register REG1 to (See Datasheet)", 21 ULED18 (oc) "Current Source Output for Driving LED. The LED current can be set from 0mA to 20mA in 64 steps via software control and internal 6-bit linear DAC. Each output can be disabled by setting the associated data register REG1 to (See Datasheet)"
part B pins: 10 DVCC (power) "Supply Voltage for All digital I/O lines. This pin sets the logic reference level of the LTC3220/LTC3220-1. DVCC will reset the data registers when set below the undervoltage lockout threshold. A 0.1uF X5R or X7R ceramic (See Datasheet)", 11 SCL (in) "I2C Clock Input. The logic level for SCL is referenced to DVCC.", 12 SDA (io) "Input Data for the Serial Port. Serial data is shifted in one bit per clock cycle to control the LTC3220/ LTC3220-1. The logic level is referenced to DVCC.", 22 C2M "Charge Pump Flying Capacitor Pins. A 2.2uF X7R or X5R ceramic capacitor should be connected from C1P to C1M and C2P to C2M.", 23 C1M "Charge Pump Flying Capacitor Pins. A 2.2uF X7R or X5R ceramic capacitor should be connected from C1P to C1M and C2P to C2M.", 24 VIN (power) "Supply Voltage for the Entire Device. This pin must be bypassed with a single 2.2uF low ESR ceramic capacitor.", 25 ~{RST} (in) "Active Low Reset Input. R\S\T\ Resets all internal registers and forces LTC3220/LTC3220-1 into shutdown mode.", 26 C2P "Charge Pump Flying Capacitor Pins. A 2.2uF X7R or X5R ceramic capacitor should be connected from C1P to C1M and C2P to C2M.", 27 C1P "Charge Pump Flying Capacitor Pins. A 2.2uF X7R or X5R ceramic capacitor should be connected from C1P to C1M and C2P to C2M.", 28 CPO (power) "Output of the Charge Pump. Used to power all LEDs. A 4.7uF X5R or X7R ceramic capacitor should be connected to ground.", 29 EP (power) "Ground. The Exposed Pad must be soldered to PCB ground."